# Altium schematic symbol library RPotentiometer.Schlib: 2 symbols
Pins are listed as number, name and electrical type; pins without a type are passive.

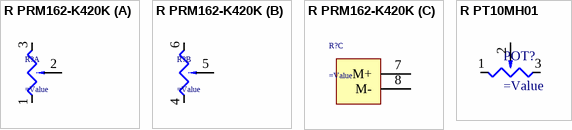
[diagram p0: symbols R PRM162-K420K to R PT10MH01]

## R PRM162-K420K
designator R?
Bourns 16 mm Motorized Potentiometer
part A pins: 1, 2, 3
part B pins: 4, 5, 6
part C pins: 7 M+, 8 M-
1 alternate drawing of the same symbol

## R PT10MH01
designator POT?
pins: 1 A, 2 S, 3 E